# Altium footprint library Vote.PcbLib: 19 footprints (part 2 of 2)
Each footprint in its own frame and in the unit in brackets; x right, y up, seen from the top. Pads: shape width x height; smd on the part's side, far side on the other; paste and mask are expansions set on the pad; w line width, h text height; cw(c..) or ccw(c..) is an arc to the next point about the centre after c.
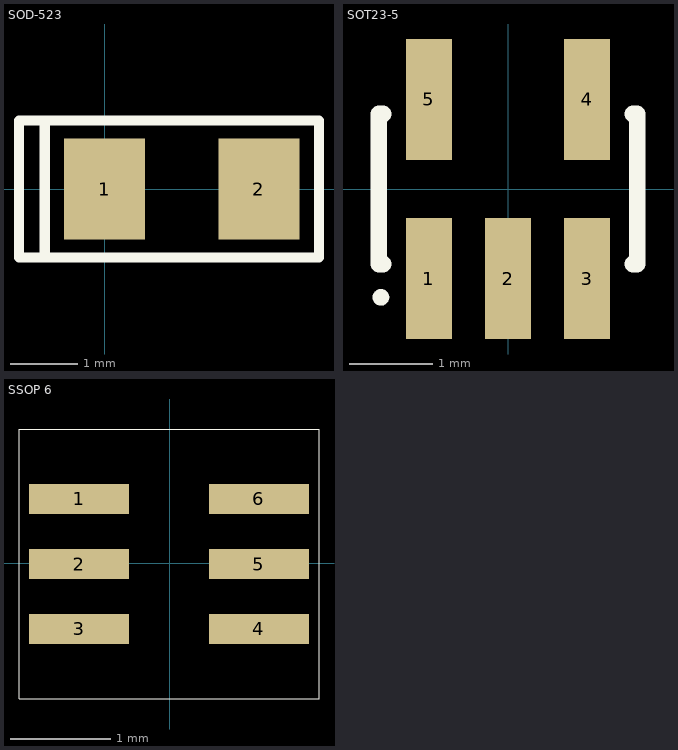
[diagram p1: the footprints below, top view; thin cyan lines are the x and y axes]

## SOD-523 [mm]
pads (2):
  rect 1.2x1.5 smd: 1(0,0) 2(2.286,0)
Top Overlay:
  lines w0.152: -0.889,-1.016 -0.889,1.016 ; -0.889,-1.016 3.175,-1.016 3.175,1.016 -0.889,1.016 ; -0.889,-1.016 -1.27,-1.016 -1.27,1.016 -0.889,1.016

## SOT23-5 [mm]
pads (5):
  rect 0.55x1.45 smd: 1(-0.95,-1.075) 2(0,-1.075) 3(0.95,-1.075) 4(0.95,1.075) 5(-0.95,1.075)
Top Overlay:
  circle w0.1: c-1.525,-1.3 r0.05
  lines w0.2: -1.5,-0.9 -1.55,-0.9 -1.55,0.9 -1.5,0.9 ; 1.5,-0.9 1.55,-0.9 1.55,0.9 1.5,0.9

## SSOP 6 [mm]
pads (6):
  rect 1x0.3 smd paste+0 mask+0.02: 1(-0.908,0.642) 2(-0.908,-0.008) 3(-0.908,-0.658) 4(0.892,-0.658) 5(0.892,-0.008) 6(0.892,0.642)
Top Overlay:
  lines w0.003: -1.508,-1.358 -1.508,1.342 1.492,1.342 1.492,-1.358 -1.508,-1.358